# Altium schematic symbol library SPV1040T.SchLib: 1 symbol
Pins are listed as number, name and electrical type; pins without a type are passive.

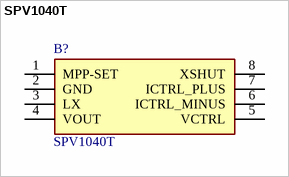
[diagram p0: symbol SPV1040T]

## SPV1040T
designator B?
Voltage Regulators - Switching Regulators Hi efficiency solar battery charger; Manufacturer_Name: STMicroelectronics; Geometry.Height: 1.2mm; Manufacturer_Part_Number: SPV1040T; Mouser Part Number: 511-SPV1040T; Mouser Price/Stock: https://www.mouser.co.uk/ProductDetail/STMicroelectronics/SPV1040T?qs=7qOP6AeGKU1lga8RjcaFUQ%3D%3D; Arrow Part Number: SPV1040T; Arrow Price/Stock: https://www.arrow.com/en/products/spv1040t/stmicroelectronics?region=europe; Datasheet Link: http://www.mouser.com/ds/2/389/spv1040-974182.pdf
footprint SOP65P640X120-8N
pins: 1 MPP-SET, 2 GND, 3 LX, 4 VOUT, 5 VCTRL, 6 ICTRL_MINUS, 7 ICTRL_PLUS, 8 XSHUT